# Altium footprint library ESP32-WROVER-I.PcbLib: 2 footprints
Each footprint in its own frame and in the unit in brackets; x right, y up, seen from the top. Pads: shape width x height; smd on the part's side, far side on the other; paste and mask are expansions set on the pad; w line width, h text height; cw(c..) or ccw(c..) is an arc to the next point about the centre after c.
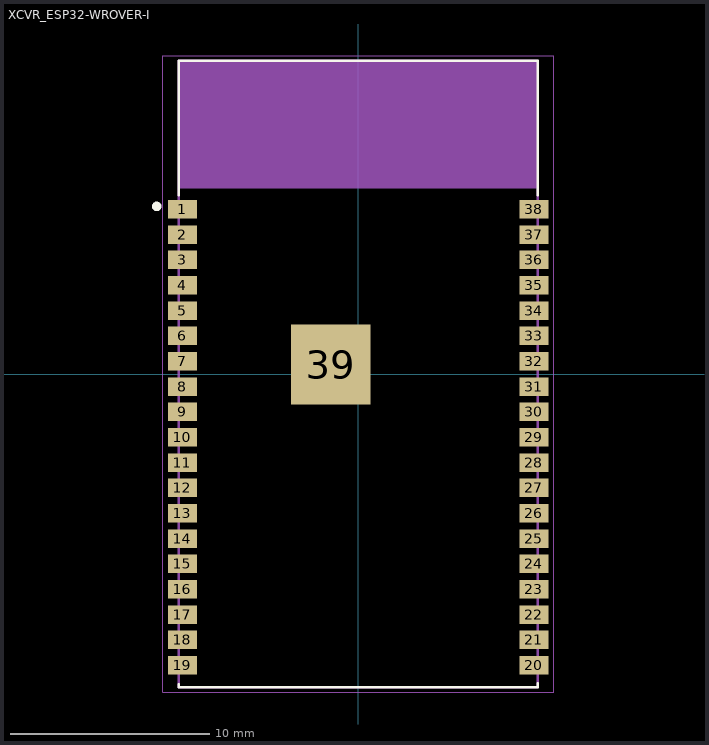
[diagram p0: the footprints below, top view; thin cyan lines are the x and y axes]

## PCBComponent_1 [mm]

## XCVR_ESP32-WROVER-I [mm]
pads (39):
  rect 1.45x0.93 smd: 1(-8.81,8.26) 2(-8.81,6.99) 3(-8.81,5.72) 4(-8.81,4.45) 5(-8.81,3.18) 6(-8.81,1.91) 7(-8.81,0.64) 8(-8.81,-0.63) 9(-8.81,-1.9) 10(-8.81,-3.17) 11(-8.81,-4.44) 12(-8.81,-5.71) 13(-8.81,-6.98) 14(-8.81,-8.25) 15(-8.81,-9.52) 16(-8.81,-10.79) 17(-8.81,-12.06) 18(-8.81,-13.33) 19(-8.81,-14.6) 20(8.81,-14.6) 21(8.81,-13.33) 22(8.81,-12.06) 23(8.81,-10.79) 24(8.81,-9.52) 25(8.81,-8.25) 26(8.81,-6.98) 27(8.81,-5.71) 28(8.81,-4.44) 29(8.81,-3.17) 30(8.81,-1.9) 31(8.81,-0.63) 32(8.81,0.64) 33(8.81,1.91) 34(8.81,3.18) 35(8.81,4.45) 36(8.81,5.72) 37(8.81,6.99) 38(8.81,8.26)
  rect 4x4 smd: 39(-1.38,0.47)
Top Overlay:
  circle w0.24: c-10.1,8.4 r0.12
  lines w0.127: -9,-15.55 -9,-15.7 9,-15.7 9,-15.5 ; -9,8.95 -9,15.7 9,15.7 9,8.95
Top Paste:
  region: -2.648,1.735 -0.115,1.735 -0.115,-0.796 -2.648,-0.796
Mechanical 4:
  region: -9.029,15.7 9,15.7 9,9.33 -9.029,9.33
  region: -9.03,15.7 9,15.7 9,9.331 -9.03,9.331
  region: -9.023,15.7 9,15.7 9,9.324 -9.023,9.324
  region: -9.029,15.7 9,15.7 9,9.33 -9.029,9.33
  region: -9.03,15.7 9,15.7 9,9.331 -9.03,9.331
  region: -9.023,15.7 9,15.7 9,9.324 -9.023,9.324
  lines w0.127: -9,-15.7 -9,15.7 ; -9,-15.7 9,-15.7 ; -9,-15.7 -9,15.7 ; -9,-15.7 9,-15.7 ; -9,15.7 9,15.7 ; -9,15.7 9,15.7 ; 9,-15.7 9,15.7 ; 9,-15.7 9,15.7
Mechanical 16:
  lines w0.05: -9.8,-15.95 -9.8,15.95 9.8,15.95 9.8,-15.95 -9.8,-15.95